# Altium schematic symbol library NRS5040T100MMGJ.SchLib: 1 symbol
Pins are listed as number, name and electrical type; pins without a type are passive.

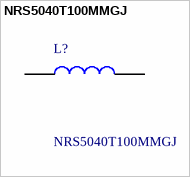
[diagram p0: symbol NRS5040T100MMGJ]

## NRS5040T100MMGJ
designator L?
Fixed Inductors 10uH 20%; Manufacturer_Name: TAIYO YUDEN; Geometry.Height: 4.1mm; Mouser Part Number: 963-NRS5040T100MMGJ; Mouser Price/Stock: https://www.mouser.co.uk/ProductDetail/TAIYO-YUDEN/NRS5040T100MMGJ?qs=y6ZabgHbY%252BxiJJH9TpkLFQ%3D%3D; Manufacturer_Part_Number: NRS5040T100MMGJ; Datasheet Link: https://datasheet.lcsc.com/szlcsc/1812061617_Taiyo-Yuden-NRS5040T100MMGJ_C222949.pdf
footprint NRS5040T100MMGJ
pins: 1, 2